# Altium footprint library MODULES.PcbLib: 2 footprints
Each footprint in its own frame and in the unit in brackets; x right, y up, seen from the top. Pads: shape width x height; smd on the part's side, far side on the other; paste and mask are expansions set on the pad; w line width, h text height; cw(c..) or ccw(c..) is an arc to the next point about the centre after c.
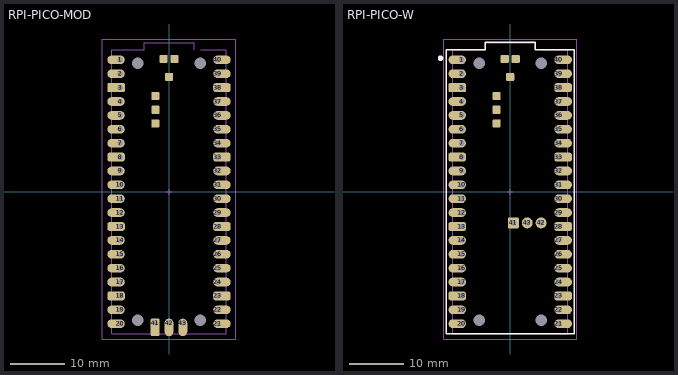
[diagram p0: the footprints below, top view; thin cyan lines are the x and y axes]

## RPI-PICO-MOD [mm] "RASPBERRY PI PICO W RP2040 BOARD"
height 1
pads (53):
  oval 3.2x1.6 hole 1 copper offset -0.8,0 mask+0.102: 1(-8.89,24.13) 2(-8.89,21.59) 4(-8.89,16.51)
  rrect25% 3.2x1.6 hole 1 copper offset -0.8,0 mask+0.102: 3(-8.89,19.05)
  oval 3.2x1.6 hole 1 copper offset -0.8,0: 5(-8.89,13.97) 6(-8.89,11.43) 7(-8.89,8.89) 9(-8.89,3.81) 10(-8.89,1.27) 11(-8.89,-1.27) 12(-8.89,-3.81) 14(-8.89,-8.89) 15(-8.89,-11.43) 16(-8.89,-13.97) 17(-8.89,-16.51) 19(-8.89,-21.59) 20(-8.89,-24.13)
  rrect50% 3.2x1.6 hole 1 copper offset -0.8,0: 8(-8.89,6.35) 13(-8.89,-6.35) 18(-8.89,-19.05)
  oval 3.2x1.6 hole 1 copper offset 0.8,0: 21(8.89,-24.13) 22(8.89,-21.59) 24(8.89,-16.51) 25(8.89,-13.97) 26(8.89,-11.43) 27(8.89,-8.89) 29(8.89,-3.81) 30(8.89,-1.27) 31(8.89,1.27) 32(8.89,3.81) 34(8.89,8.89) 35(8.89,11.43) 36(8.89,13.97) 37(8.89,16.51) 39(8.89,21.59) 40(8.89,24.13)
  rrect50% 3.2x1.6 hole 1 copper offset 0.8,0: 23(8.89,-19.05) 28(8.89,-6.35) 33(8.89,6.35) 38(8.89,19.05)
  rrect25% 1.6x3.2 hole 1 copper offset 0,-0.8: 41(-2.54,-24)
  oval 1.6x3.2 hole 1 copper offset 0,-0.8: 42(0,-24) 43(2.54,-24)
  rrect30% 1.5x1.5 smd: 44(0,21) 45(1,24.3) 46(-1,24.3) 47(-2.49,17.5) 48(-2.49,15) 49(-2.49,12.5)
  round 0 hole 2.1 unplated copper offset 0.8,0: H0(-5.7,23.5) H1(5.7,23.5) H2(-5.7,-23.5) H3(5.7,-23.5)
Top Courtyard:
  lines w0.05: -12.192,-26.924 12.192,-26.924 12.192,27.94 -12.192,27.94 -12.192,-26.924
Top Assembly:
  lines w0.1: 4.572,26 4.572,27.218 -4.572,27.218 -4.572,26 -10.49,26 -10.49,-26 10.51,-26 10.51,26 5.79,26
Mechanical 15:
  lines w0.05: -0.5,0 0.5,0 ; 0,-0.5 0,0.5
3D body "Raspberry Pi Pico-R3.STEP": height 3.69, standoff 0, extent -10.5,-25.5 10.5,26.926

## RPI-PICO-W [mm] "RASPBERRY PI PICO W RP2040 BOARD"
height 1
pads (53):
  oval 3.2x1.6 hole 1 copper offset -0.8,0 mask+0.102: 1(-8.89,24.13) 2(-8.89,21.59) 4(-8.89,16.51)
  rrect25% 3.2x1.6 hole 1 copper offset -0.8,0 mask+0.102: 3(-8.89,19.05)
  oval 3.2x1.6 hole 1 copper offset -0.8,0: 5(-8.89,13.97) 6(-8.89,11.43) 7(-8.89,8.89) 9(-8.89,3.81) 10(-8.89,1.27) 11(-8.89,-1.27) 12(-8.89,-3.81) 14(-8.89,-8.89) 15(-8.89,-11.43) 16(-8.89,-13.97) 17(-8.89,-16.51) 19(-8.89,-21.59) 20(-8.89,-24.13)
  rrect50% 3.2x1.6 hole 1 copper offset -0.8,0: 8(-8.89,6.35) 13(-8.89,-6.35) 18(-8.89,-19.05)
  oval 3.2x1.6 hole 1 copper offset 0.8,0: 21(8.89,-24.13) 22(8.89,-21.59) 24(8.89,-16.51) 25(8.89,-13.97) 26(8.89,-11.43) 27(8.89,-8.89) 29(8.89,-3.81) 30(8.89,-1.27) 31(8.89,1.27) 32(8.89,3.81) 34(8.89,8.89) 35(8.89,11.43) 36(8.89,13.97) 37(8.89,16.51) 39(8.89,21.59) 40(8.89,24.13)
  rrect50% 3.2x1.6 hole 1 copper offset 0.8,0: 23(8.89,-19.05) 28(8.89,-6.35) 33(8.89,6.35) 38(8.89,19.05)
  rrect25% 2x2 hole 1.016: 41(0.584,-5.7)
  round 2 hole 1.016: 42(5.664,-5.7) 43(3.124,-5.7)
  rrect30% 1.5x1.5 smd: 44(0,21) 45(1,24.3) 46(-1,24.3) 47(-2.49,17.5) 48(-2.49,15) 49(-2.49,12.5)
  round 0 hole 2.1 unplated copper offset 0.8,0: H0(-5.7,23.5) H1(5.7,23.5) H2(-5.7,-23.5) H3(5.7,-23.5)
Top Overlay:
  circle w0.508: c-12.738,24.415 r0.254
  lines w0.254: -11.684,-26 -11.684,26 -4.572,26 -4.572,27.3 4.572,27.3 4.572,26 11.684,26 11.684,-26 -11.684,-26
Mechanical 13:
  lines w0.1: 4.572,26 4.572,27.218 -4.572,27.218 -4.572,26 -10.49,26 -10.49,-26 10.51,-26 10.51,26 5.79,26
Mechanical 15:
  lines w0.05: -0.5,0 0.5,0 ; 0,-0.5 0,0.5 ; -12.192,-26.924 12.192,-26.924 12.192,27.94 -12.192,27.94 -12.192,-26.924
3D body "RaspBerryPi Pico W.step": height 3.7, standoff 0.01, extent -10.5,-25.5 10.5,26.845